# Altium integrated library CAT24C256WI-GT3.IntLib: 1 symbol
Pins are listed as number, name and electrical type; pins without a type are passive.

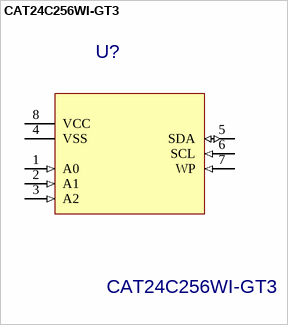
[diagram p0: symbol CAT24C256WI-GT3]

## CAT24C256WI-GT3
designator U?
CAT24C256 Series 256 kbit %2832 K x 8%29 1.8 V I2C CMOS Serial EEPROM - SOIC-8; MF: ON Semiconductor; MP: CAT24C256WI-GT3; Price: 0.32 USD; Package: SOIC-8 ON Semiconductor; Availability: Good; Value: *; Mouser: http://www.mouser.com/ProductDetail/ON-Semiconductor/CAT24C256WI-GT3/?qs=sGAEpiMZZMuVhdAcoizlReWCLrywymY2%2fLYsR6sjnIQ%3d
footprint SOIC127P600X175-8N
pins: 1 A0 (in), 2 A1 (in), 3 A2 (in), 4 VSS, 5 SDA (io), 6 SCL (in), 7 WP (in), 8 VCC (power)